# EAGLE library part USBULC6-2M6 (library ELL-i-PowerIC)
Large bandwidth ESD protection Usable for ESD protection of USB, Ethernet, Video, etc Datasheet <http://www.st.com/web/en/resource/technical/document/datasheet/CD00178569.pdf>
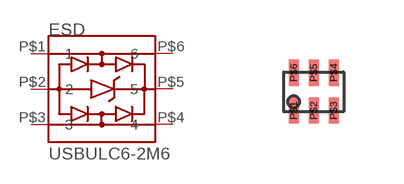
[diagram p2: symbol with the pads of UQFN6; footprint UQFN6]

Designator prefix ESD

## USBULC6-2M6  [UQFN6]
P$1  1
P$2  2
P$3  3
P$4  4
P$5  5
P$6  6

## Footprint UQFN6 (pad centres in mm)
6 leads Micro Quad Flat None (uFQN) package Micro QFN, 1.45x1.00 mm, 6 leads Drawn from the USBULC6-2M6 datasheet.
smd 0.25 x 0.65: P$1 -0.5,-0.475; P$2 0,-0.475; P$3 0.5,-0.475; P$4 0.5,0.475; P$5 0,0.475; P$6 -0.5,0.475